# Altium integrated library BC2AAAL.IntLib: 1 symbol
Pins are listed as number, name and electrical type; pins without a type are passive.

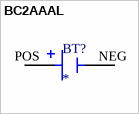
[diagram p0: symbol BC2AAAL]

## BC2AAAL
designator BT?
2 AAA Battery Holder; MP: BC2AAAL; Package: None; Price: None; Value: *; Availability: Unavailable
footprint BAT_BC2AAAL
pins: NEG, POS